# EAGLE library part DC-DC,INVERTER,SW-CAP1 (library QuantumOptics)
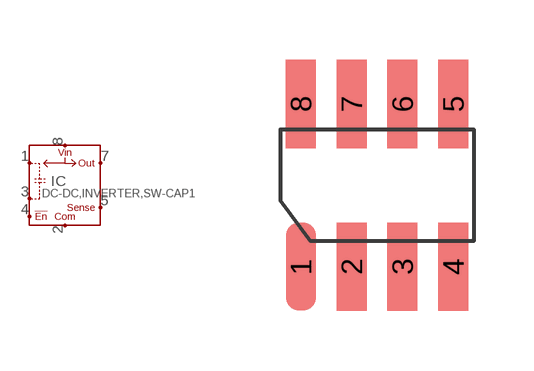
[diagram p158: symbol with the pads of SOIC-8; footprint SOIC-8]

Designator prefix IC

## DC-DC,INVERTER,SW-CAP1-SOIC8  [SOIC-8]
1  CAP+
2  COM
3  CAP-
4  !EN
5  SENSE
7  VOUT
8  VIN

## Footprint SOIC-8 (pad centres in mm)
SOIC-8 (AKA SO-8), pads on 0.050" grid.
smd 0.75 x 2.2: 1 -1.905,-2.032; 2 -0.635,-2.032; 3 0.635,-2.032; 4 1.905,-2.032; 5 1.905,2.032; 6 0.635,2.032; 7 -0.635,2.032; 8 -1.905,2.032